# Altium schematic symbol library BSC093N04LSGATMA1.SchLib: 1 symbol
Pins are listed as number, name and electrical type; pins without a type are passive.

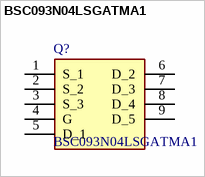
[diagram p0: symbol BSC093N04LSGATMA1]

## BSC093N04LSGATMA1
designator Q?
INFINEON - BSC093N04LSGATMA1 - MOSFET, N CH, 49A, 40V, PG-TDSON-8; Geometry.Height: 1mm; Mouser Part Number: 726-BSC093N04LSGATMA; Mouser Price/Stock: https://www.mouser.co.uk/ProductDetail/Infineon-Technologies/BSC093N04LSGATMA1?qs=K00xGehIljvqz%2F%2Fk43Bdgg%3D%3D; Manufacturer_Name: Infineon; Manufacturer_Part_Number: BSC093N04LSGATMA1; Datasheet Link: https://www.infineon.com/dgdl/Infineon-BSC093N04LSG-DS-v02_01-en.pdf?fileId=db3a30431689f4420116c44a1fa80822
footprint BSC340N08NS3G
pins: 1 S_1, 2 S_2, 3 S_3, 4 G, 5 D_1, 6 D_2, 7 D_3, 8 D_4, 9 D_5